# Altium schematic symbol library PE014005.SchLib: 2 symbols
Pins are listed as number, name and electrical type; pins without a type are passive.

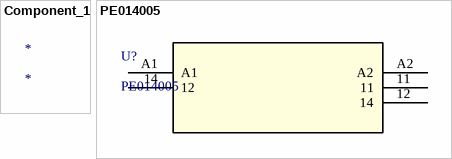
[diagram p0: symbols Component_1 to PE014005]

## Component_1
designator *

## PE014005
designator U?
No Description Available; Mfr_Name: Tyco Electronics; Copyright: Copyright (C) 2021 Ultra Librarian. All rights reserved.; Manufacturer_Part_Number: PE014005; Digi-Key_Part_Number_1: PB353-ND; Digi-Key_Part_Number_2: PB353-NDL; RefDes: RefDes; Type: DEV
footprint RELAY5-PE_CO (Footprint not found)
pins: 11, 12 14, 14 12, A1, A2